# Altium schematic symbol library SCH - MCU - NUVOTON - NUVOTON M032FC1AE.SchLib: 1 symbol
Pins are listed as number, name and electrical type; pins without a type are passive.

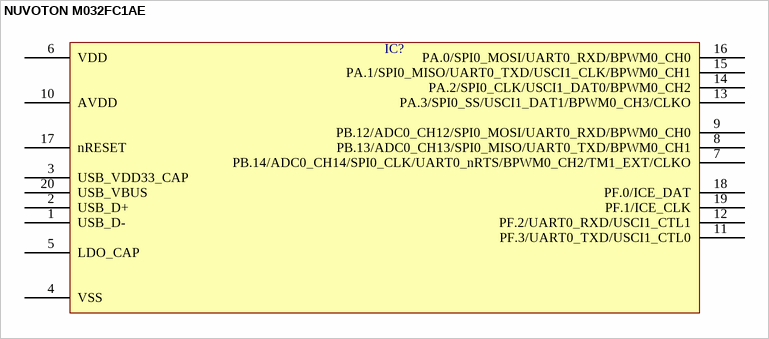
[diagram p0: symbol NUVOTON M032FC1AE]

## NUVOTON M032FC1AE
designator IC?  (value not drawn)
pins: 1 USB_D-, 2 USB_D+, 3 USB_VDD33_CAP, 4 VSS, 5 LDO_CAP, 6 VDD, 7 PB.14/ADC0_CH14/SPI0_CLK/UART0_nRTS/BPWM0_CH2/TM1_EXT/CLKO, 8 PB.13/ADC0_CH13/SPI0_MISO/UART0_TXD/BPWM0_CH1, 9 PB.12/ADC0_CH12/SPI0_MOSI/UART0_RXD/BPWM0_CH0, 10 AVDD, 11 PF.3/UART0_TXD/USCI1_CTL0, 12 PF.2/UART0_RXD/USCI1_CTL1, 13 PA.3/SPI0_SS/USCI1_DAT1/BPWM0_CH3/CLKO, 14 PA.2/SPI0_CLK/USCI1_DAT0/BPWM0_CH2, 15 PA.1/SPI0_MISO/UART0_TXD/USCI1_CLK/BPWM0_CH1, 16 PA.0/SPI0_MOSI/UART0_RXD/BPWM0_CH0, 17 nRESET, 18 PF.0/ICE_DAT, 19 PF.1/ICE_CLK, 20 USB_VBUS